# Altium footprint library Q's常用端子.PcbLib: 44 footprints (part 1 of 3)
Each footprint in its own frame and in the unit in brackets; x right, y up, seen from the top. Pads: shape width x height; smd on the part's side, far side on the other; paste and mask are expansions set on the pad; w line width, h text height; cw(c..) or ccw(c..) is an arc to the next point about the centre after c.
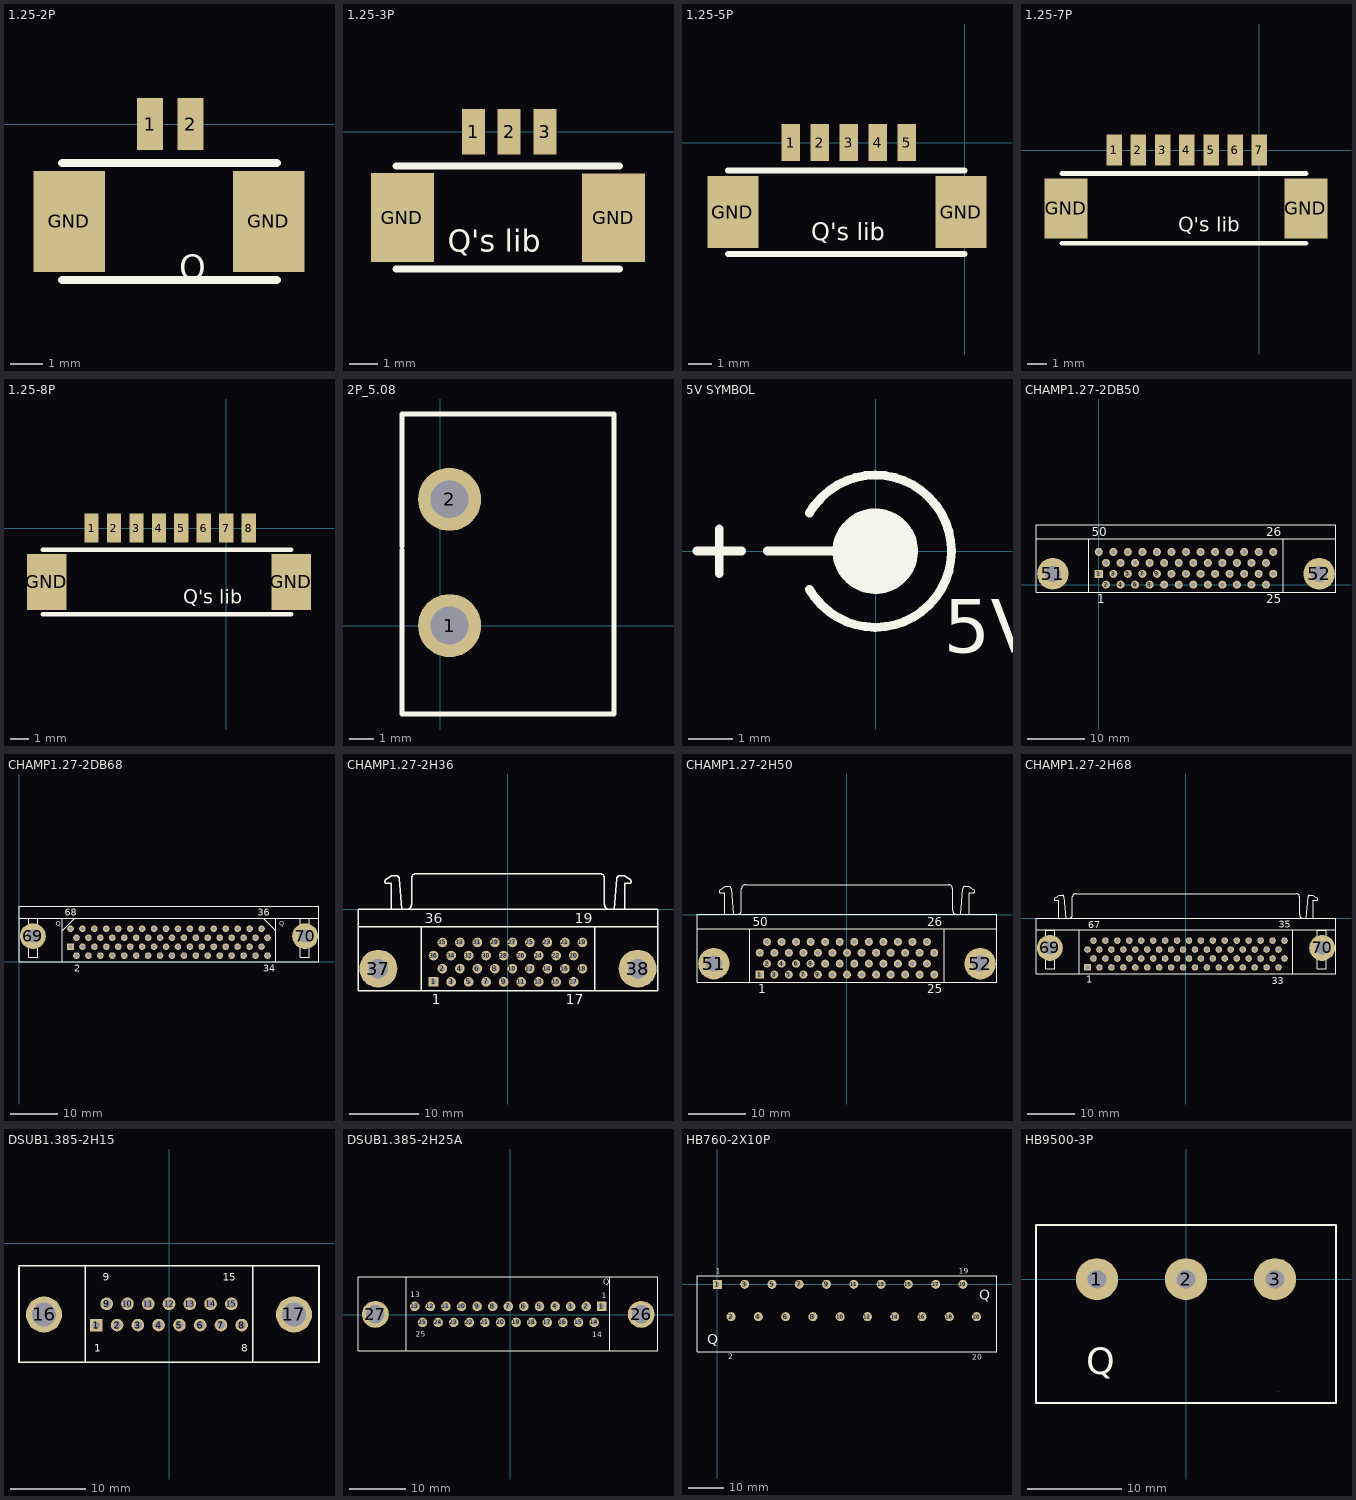
[diagram p0: the footprints below, top view; thin cyan lines are the x and y axes]

## 1.25-2P [mm]
pads (4):
  rect 0.8x1.6 smd: 1(-7.5,0) 2(-6.25,0)
  rect 2.2x3.1 smd: GND(-9.982,-2.997) GND(-3.85,-3)
Top Overlay:
  lines w0.25: -10.2,-4.8 -3.6,-4.8 ; -10.2,-1.2 -3.6,-1.2
  text "Q" at -6.6,-4.8 h0.76

## 1.25-3P [mm]
pads (5):
  rect 0.8x1.6 smd: 1(-7.5,0) 2(-6.25,0) 3(-5,0)
  rect 2.2x3.1 smd: GND(-9.982,-2.997) GND(-2.6,-3)
Top Overlay:
  lines w0.25: -10.2,-4.8 -2.4,-4.8 ; -10.2,-1.2 -2.4,-1.2
  text "Q's lib" at -8.4,-4.2 h0.76

## 1.25-5P [mm]
pads (7):
  rect 0.8x1.6 smd: 1(-7.5,0) 2(-6.25,0) 3(-5,0) 4(-3.75,0) 5(-2.5,0)
  rect 2.2x3.1 smd: GND(-9.982,-2.997) GND(-0.15,-3)
Top Overlay:
  lines w0.25: -10.2,-4.8 0,-4.8 ; -10.2,-1.2 0,-1.2
  text "Q's lib" at -6.6,-4.2 h0.76

## 1.25-7P [mm]
pads (9):
  rect 0.8x1.6 smd: 1(-7.5,0) 2(-6.25,0) 3(-5,0) 4(-3.75,0) 5(-2.5,0) 6(-1.25,0) 7(0,0)
  rect 2.2x3.1 smd: GND(-9.982,-2.997) GND(2.4,-3)
Top Overlay:
  lines w0.25: -10.2,-4.8 2.4,-4.8 ; -10.2,-1.2 2.4,-1.2
  text "Q's lib" at -4.2,-4.2 h0.76

## 1.25-8P [mm]
pads (10):
  rect 0.8x1.6 smd: 1(-7.5,0) 2(-6.25,0) 3(-5,0) 4(-3.75,0) 5(-2.5,0) 6(-1.25,0) 7(0,0) 8(1.25,0)
  rect 2.2x3.1 smd: GND(-9.982,-2.997) GND(3.6,-3)
Top Overlay:
  lines w0.25: -10.2,-4.8 3.6,-4.8 ; -10.2,-1.2 3.6,-1.2
  text "Q's lib" at -2.4,-4.2 h0.76

## 2P_5.08 [mil]
pads (2):
  round 100 hole 60: 1(15,0) 2(15,200)
Top Overlay:
  lines w8: -60,120 -60,-140 275,-140 275,335 135,335 60,335 -60,335 -60,175 ; -60,125 -60,180

## 5V SYMBOL [mil]
Top Overlay:
  circle w39.37: c-0.27,-0.07 r18.03
  lines w7.87: -157.75,-0.07 -118.38,-0.07 ; -138.06,-19.76 -138.06,19.61 ; -95.38,-0.07 -0.27,-0.07 ; -58.52,-33.7 ccw(c-0.27,-0.07) -58.52,33.56
  text "5V DC" at 60,-90 h47.24

## CHAMP1.27-2DB50 [mm] "Connector; 50 Position;直脚; Pitch 1.27 mm"
height 9.6
pads (52):
  rect 1.4x1.4 hole 0.8: 1(0,1.905)
  round 1.4 hole 0.8: 2(1.27,0) 3(2.54,1.905) 4(3.81,0) 5(5.08,1.905) 6(6.35,0) 7(7.62,1.905) 8(8.89,0) 9(10.16,1.905) 10(11.43,0) 11(12.7,1.905) 12(13.97,0) 13(15.24,1.905) 14(16.51,0) 15(17.78,1.905) 16(19.05,0) 17(20.32,1.905) 18(21.59,0) 19(22.86,1.905) 20(24.13,0) 21(25.4,1.905) 22(26.67,0) 23(27.94,1.905) 24(29.21,0) 25(30.48,1.905) 26(30.48,5.715) 27(29.21,3.81) 28(27.94,5.715) 29(26.67,3.81) 30(25.4,5.715) 31(24.13,3.81) 32(22.86,5.715) 33(21.59,3.81) 34(20.32,5.715) 35(19.05,3.81) 36(17.78,5.715) 37(16.51,3.81) 38(15.24,5.715) 39(13.97,3.81) 40(12.7,5.715) 41(11.43,3.81) 42(10.16,5.715) 43(8.89,3.81) 44(7.62,5.715) 45(6.35,3.81) 46(5.08,5.715) 47(3.81,3.81) 48(2.54,5.715) 49(1.27,3.81) 50(0,5.715)
  round 5.5 hole 2.8: 51(-8.01,1.905) 52(38.49,1.905)
Top Overlay:
  lines w0.2: -10.96,8 41.44,8 ; -1.76,-1.3 -1.76,7.92 ; 32.24,-1.3 32.24,8 ; -10.96,-1.3 -10.96,10.5 41.44,10.5 41.44,-1.3 -10.96,-1.3
  text "1" at -0.25,-3.275 h1.5
  text "25" at 29.23,-3.275 h1.5
  text "50" at -1.25,8.475 h1.5
  text "26" at 29.23,8.475 h1.5

## CHAMP1.27-2DB68 [mm] "Connector; 68 Position; ; Pitch 1.27 mm"
height 9.6
pads (70):
  rect 1.4x1.4 hole 0.8: 1(10.96,3.205)
  round 1.4 hole 0.8: 2(12.23,1.3) 3(13.5,3.205) 4(14.77,1.3) 5(16.04,3.205) 6(17.31,1.3) 7(18.58,3.205) 8(19.85,1.3) 9(21.12,3.205) 10(22.39,1.3) 11(23.66,3.205) 12(24.93,1.3) 13(26.2,3.205) 14(27.47,1.3) 15(28.74,3.205) 16(30.01,1.3) 17(31.28,3.205) 18(32.55,1.3) 19(33.82,3.205) 20(35.09,1.3) 21(36.36,3.205) 22(37.63,1.3) 23(38.9,3.205) 24(40.17,1.3) 25(41.44,3.205) 26(42.71,1.3) 27(43.98,3.205) 28(45.25,1.3) 29(46.52,3.205) 30(47.79,1.3) 31(49.06,3.205) 32(50.33,1.3) 33(51.6,3.205) 34(52.87,1.3) 35(52.87,5.11) 36(51.6,7.015) 37(50.33,5.11) 38(49.06,7.015) 39(47.79,5.11) 40(46.52,7.015) 41(45.25,5.11) 42(43.98,7.015) 43(42.71,5.11) 44(41.44,7.015) 45(40.17,5.11) 46(38.9,7.015) 47(37.63,5.11) 48(36.36,7.015) 49(35.09,5.11) 50(33.82,7.015) 51(32.55,5.11) 52(31.28,7.015) 53(30.01,5.11) 54(28.74,7.015) 55(27.47,5.11) 56(26.2,7.015) 57(24.93,5.11) 58(23.66,7.015) 59(22.39,5.11) 60(21.12,7.015) 61(19.85,5.11) 62(18.58,7.015) 63(17.31,5.11) 64(16.04,7.015) 65(14.77,5.11) 66(13.5,7.015) 67(12.23,5.11) 68(10.96,7.015)
  round 5.5 hole 2.8: 69(2.959,5.45) 70(60.88,5.45)
Top Overlay:
  lines w0.2: 0,9.3 63.83,9.3 ; 9.2,0 9.2,9.22 ; 54.63,0 54.63,9.3 ; 0,0 63.83,0 63.83,11.8 0,11.8 0,0
  lines w0.203: 9.309,6.72 11.722,9.133 ; 52.108,9.133 54.521,6.72 ; 2.07,1.005 3.975,1.005 3.975,9.26 2.07,9.26 2.07,1.005 ; 59.855,1.005 59.855,9.26 61.76,9.26 61.76,1.005 59.855,1.005
  text "Q" at 55.41,7.65 h1.02
  text "Q" at 7.785,7.65 h1.02
  text "2" at 11.722,-2.129 h1.5
  text "34" at 51.981,-2.129 h1.5
  text "68" at 9.71,9.775 h1.5
  text "36" at 50.838,9.809 h1.5

## CHAMP1.27-2H36 [mm] "Connector; 36 Position; Right Angle; Pitch 1.27 mm"
height 9.6
pads (38):
  rect 1.4x1.4 hole 0.8: 1(-10.795,-10.5)
  round 1.4 hole 0.8: 2(-9.525,-8.595) 3(-8.255,-10.5) 4(-6.985,-8.595) 5(-5.715,-10.5) 6(-4.445,-8.595) 7(-3.175,-10.5) 8(-1.905,-8.595) 9(-0.635,-10.5) 10(0.635,-8.595) 11(1.905,-10.5) 12(3.175,-8.595) 13(4.445,-10.5) 14(5.715,-8.595) 15(6.985,-10.5) 16(8.255,-8.595) 17(9.525,-10.5) 18(10.795,-8.595) 19(10.795,-4.785) 20(9.525,-6.69) 21(8.255,-4.785) 22(6.985,-6.69) 23(5.715,-4.785) 24(4.445,-6.69) 25(3.175,-4.785) 26(1.905,-6.69) 27(0.635,-4.785) 28(-0.635,-6.69) 29(-1.905,-4.785) 30(-3.175,-6.69) 31(-4.445,-4.785) 32(-5.715,-6.69) 33(-6.985,-4.785) 34(-8.255,-6.69) 35(-9.525,-4.785) 36(-10.795,-6.69)
  round 5.5 hole 2.8: 37(-18.805,-8.595) 38(18.805,-8.595)
Top Overlay:
  lines w0.2: -21.755,-2.5 21.755,-2.5 ; -17.77,4.27 -16.83,4.898 -16.108,4.898 cw(c-16.21,4.5) -15.8,4.5 ; -17.756,4.255 ccw(c-17.53,4.01) -17.78,3.79 -16.9,3.79 -16.9,0 ; -15.8,4.52 -15.43,0 ; -14.69,0.005 ccw(c-14.69,0.7) -13.995,0.7 -13.995,4.5 ; -13.99,4.505 cw(c-13.295,4.505) -13.295,5.2 13.295,5.2 cw(c13.295,4.505) 13.99,4.505 ; -12.555,-11.8 -12.555,-2.58 ; 12.555,-11.8 12.555,-2.5 ; 13.995,4.5 13.995,0.7 ccw(c14.69,0.7) 14.69,0.005 ; 15.43,0 15.8,4.52 ; 15.8,4.5 cw(c16.21,4.5) 16.108,4.898 16.83,4.898 17.77,4.27 ; 16.9,0 16.9,3.79 17.78,3.79 ccw(c17.53,4.01) 17.756,4.255 ; -21.755,-11.8 21.755,-11.8 21.755,0 -21.755,0 -21.755,-11.8
  text "19" at 9.67,-2.025 h1.5
  text "36" at -12.045,-2.025 h1.5
  text "17" at 8.4,-13.775 h1.5
  text "1" at -11.045,-13.775 h1.5

## CHAMP1.27-2H50 [mm] "Connector; 50 Position; Right Angle; Pitch 1.27 mm"
height 9.6
pads (52):
  rect 1.4x1.4 hole 0.8: 1(-15.24,-10.477)
  round 1.4 hole 0.8: 2(-13.97,-8.572) 3(-12.7,-10.477) 4(-11.43,-8.572) 5(-10.16,-10.477) 6(-8.89,-8.572) 7(-7.62,-10.477) 8(-6.35,-8.572) 9(-5.08,-10.477) 10(-3.81,-8.572) 11(-2.54,-10.477) 12(-1.27,-8.572) 13(0,-10.477) 14(1.27,-8.572) 15(2.54,-10.477) 16(3.81,-8.572) 17(5.08,-10.477) 18(6.35,-8.572) 19(7.62,-10.477) 20(8.89,-8.572) 21(10.16,-10.477) 22(11.43,-8.572) 23(12.7,-10.477) 24(13.97,-8.572) 25(15.24,-10.477) 26(15.24,-6.667) 27(13.97,-4.763) 28(12.7,-6.667) 29(11.43,-4.763) 30(10.16,-6.667) 31(8.89,-4.763) 32(7.62,-6.667) 33(6.35,-4.763) 34(5.08,-6.667) 35(3.81,-4.763) 36(2.54,-6.667) 37(1.27,-4.763) 38(0,-6.667) 39(-1.27,-4.763) 40(-2.54,-6.667) 41(-3.81,-4.763) 42(-5.08,-6.667) 43(-6.35,-4.763) 44(-7.62,-6.667) 45(-8.89,-4.763) 46(-10.16,-6.667) 47(-11.43,-4.763) 48(-12.7,-6.667) 49(-13.97,-4.763) 50(-15.24,-6.667)
  round 5.5 hole 2.8: 51(-23.25,-8.572) 52(23.25,-8.572)
Top Overlay:
  lines w0.2: -26.2,-2.478 26.2,-2.478 ; -22.215,4.292 -21.275,4.92 -20.553,4.92 cw(c-20.655,4.523) -20.245,4.523 ; -22.201,4.277 ccw(c-21.975,4.032) -22.225,3.812 -21.345,3.813 -21.345,0.022 ; -20.245,4.543 -19.875,0.022 ; -19.135,0.028 ccw(c-19.135,0.723) -18.44,0.723 -18.44,4.523 ; -18.435,4.527 cw(c-17.74,4.527) -17.74,5.222 17.74,5.222 cw(c17.74,4.527) 18.435,4.527 ; -17,-11.777 -17,-2.558 ; 17,-11.777 17,-2.478 ; 18.44,4.523 18.44,0.723 ccw(c19.135,0.723) 19.135,0.028 ; 19.875,0.022 20.245,4.543 ; 20.245,4.523 cw(c20.655,4.523) 20.553,4.92 21.275,4.92 22.215,4.292 ; 21.345,0.022 21.345,3.812 22.225,3.813 ccw(c21.975,4.032) 22.201,4.277 ; -26.2,-11.777 26.2,-11.777 26.2,0.022 -26.2,0.022 -26.2,-11.777
  text "26" at 13.99,-2.003 h1.5
  text "50" at -16.49,-2.003 h1.5
  text "25" at 13.99,-13.752 h1.5
  text "1" at -15.49,-13.752 h1.5

## CHAMP1.27-2H68 [mm] "Connector; 68 Position; Right Angle; Pitch 1.27 mm"
height 9.6
pads (70):
  rect 1.4x1.4 hole 0.8: 1(-20.955,-10.5)
  round 1.4 hole 0.8: 2(-19.685,-8.595) 3(-18.415,-10.5) 4(-17.145,-8.595) 5(-15.875,-10.5) 6(-14.605,-8.595) 7(-13.335,-10.5) 8(-12.065,-8.595) 9(-10.795,-10.5) 10(-9.525,-8.595) 11(-8.255,-10.5) 12(-6.985,-8.595) 13(-5.715,-10.5) 14(-4.445,-8.595) 15(-3.175,-10.5) 16(-1.905,-8.595) 17(-0.635,-10.5) 18(0.635,-8.595) 19(1.905,-10.5) 20(3.175,-8.595) 21(4.445,-10.5) 22(5.715,-8.595) 23(6.985,-10.5) 24(8.255,-8.595) 25(9.525,-10.5) 26(10.795,-8.595) 27(12.065,-10.5) 28(13.335,-8.595) 29(14.605,-10.5) 30(15.875,-8.595) 31(17.145,-10.5) 32(18.415,-8.595) 33(19.685,-10.5) 34(20.955,-8.595) 35(20.955,-4.785) 36(19.685,-6.69) 37(18.415,-4.785) 38(17.145,-6.69) 39(15.875,-4.785) 40(14.605,-6.69) 41(13.335,-4.785) 42(12.065,-6.69) 43(10.795,-4.785) 44(9.525,-6.69) 45(8.255,-4.785) 46(6.985,-6.69) 47(5.715,-4.785) 48(4.445,-6.69) 49(3.175,-4.785) 50(1.905,-6.69) 51(0.635,-4.785) 52(-0.635,-6.69) 53(-1.905,-4.785) 54(-3.175,-6.69) 55(-4.445,-4.785) 56(-5.715,-6.69) 57(-6.985,-4.785) 58(-8.255,-6.69) 59(-9.525,-4.785) 60(-10.795,-6.69) 61(-12.065,-4.785) 62(-13.335,-6.69) 63(-14.605,-4.785) 64(-15.875,-6.69) 65(-17.145,-4.785) 66(-18.415,-6.69) 67(-19.685,-4.785) 68(-20.955,-6.69)
  round 5.5 hole 2.8: 69(-28.956,-6.35) 70(28.965,-6.35)
Top Overlay:
  lines w0.2: -31.915,-2.5 31.915,-2.5 ; -27.93,4.27 -26.99,4.898 -26.268,4.898 cw(c-26.37,4.5) -25.96,4.5 ; -27.916,4.255 ccw(c-27.69,4.01) -27.94,3.79 -27.06,3.79 -27.06,0 ; -25.96,4.52 -25.59,0 ; -24.85,0.005 ccw(c-24.85,0.7) -24.155,0.7 -24.155,4.5 ; -24.15,4.505 cw(c-23.455,4.505) -23.455,5.2 23.455,5.2 cw(c23.455,4.505) 24.15,4.505 ; -22.715,-11.8 -22.715,-2.58 ; 22.715,-11.8 22.715,-2.5 ; 24.155,4.5 24.155,0.7 ccw(c24.85,0.7) 24.85,0.005 ; 25.59,0 25.96,4.52 ; 25.96,4.5 cw(c26.37,4.5) 26.268,4.898 26.99,4.898 27.93,4.27 ; 27.06,0 27.06,3.79 27.94,3.79 ccw(c27.69,4.01) 27.916,4.255 ; -31.915,-11.8 -31.915,0 31.915,0 31.915,-11.8 -31.915,-11.8
  lines w0.203: -29.845,-10.795 -29.845,-2.54 -27.94,-2.54 -27.94,-10.795 -29.845,-10.795 ; 27.94,-10.795 29.845,-10.795 29.845,-2.54 27.94,-2.54 27.94,-10.795
  text "35" at 19.705,-2.025 h1.5
  text "67" at -20.828,-2.159 h1.5
  text "33" at 18.288,-14.097 h1.5
  text "1" at -21.205,-13.775 h1.5

## DSUB1.385-2H15 [mm] "Connector; D Subminiature; 15 Position; Right Angle; Pitch 1.385 mm"
height 12.75
pads (17):
  rect 1.69x1.69 hole 1: 1(-9.695,-10.92)
  round 1.69 hole 1.09: 2(-6.925,-10.92) 3(-4.155,-10.92) 4(-1.385,-10.92) 5(1.385,-10.92) 6(4.155,-10.92) 7(6.925,-10.92) 8(9.695,-10.92) 9(-8.31,-8.08) 10(-5.54,-8.08) 11(-2.77,-8.08) 12(0,-8.08) 13(2.77,-8.08) 14(5.54,-8.08) 15(8.31,-8.08)
  round 4.8 hole 3.18: 16(-16.66,-9.5) 17(16.66,-9.5)
Top Overlay:
  lines w0.203: -20,-3.175 -20,-15.875 20,-15.875 20,-3.048 ; -20,-3 20,-3 ; -11.14,-15.875 -11.14,-3 ; 11.14,-15.875 11.14,-3
  text "1" at -9.945,-14.475 h1
  text "8" at 9.652,-14.475 h1
  text "15" at 7.185,-4.975 h1
  text "9" at -8.81,-4.975 h1

## DSUB1.385-2H25A [mm] "Connector; D Subminiature; 25 Position; Right Angle; Pitch 1.385 mm"
height 12.93
pads (27):
  rect 1.69x1.69 hole 1: 1(16.261,1.497)
  round 1.69 hole 1: 2(13.5,1.497) 3(10.739,1.497) 4(7.978,1.497) 5(5.217,1.497) 6(2.456,1.497) 7(-0.305,1.497) 8(-3.066,1.497) 9(-5.827,1.497) 10(-8.588,1.497) 11(-11.349,1.497) 12(-14.11,1.497) 13(-16.871,1.497) 14(14.881,-1.343) 15(12.12,-1.343) 16(9.359,-1.343) 17(6.598,-1.343) 18(3.837,-1.343) 19(1.076,-1.343) 20(-1.685,-1.343) 21(-4.446,-1.343) 22(-7.207,-1.343) 23(-9.968,-1.343) 24(-12.729,-1.343) 25(-15.49,-1.343)
  round 4.76 hole 3.26: 26(23.221,0.077) 27(-23.831,0.077)
Top Overlay:
  lines w0.203: -18.359,-6.423 -18.359,6.706 ; 17.641,-6.423 17.641,6.706 ; -26.909,-6.375 26.191,-6.375 26.191,6.706 -26.909,6.706 -26.909,-6.375
  text "1" at 16.205,2.946 h1
  text "13" at -17.628,3.15 h1
  text "14" at 14.554,-4.013 h1
  text "25" at -16.688,-3.912 h1
  text "Q" at 16.485,5.283 h1.02

## HB760-2X10P [mm]
pads (20):
  rect 2.524x2.524 hole 1.2: 1(0,0)
  round 2.524 hole 1.2: 2(3.81,-9.049) 3(7.62,0) 4(11.43,-9.049) 5(15.24,0) 6(19.05,-9.049) 7(22.86,0) 8(26.67,-9.049) 9(30.48,0) 10(34.29,-9.049) 11(38.1,0) 12(41.91,-9.049) 13(45.72,0) 14(49.53,-9.049) 15(53.34,0) 16(57.15,-9.049) 17(60.96,0) 18(64.77,-9.049) 19(68.58,0) 20(72.39,-9.049)
Top Overlay:
  lines w0.203: -5.715,-18.923 78.105,-18.923 78.105,2.413 -5.715,2.413 -5.715,-18.923
  text "Q" at -2.87,-16.764 h2.82
  text "Q" at 73.152,-4.267 h2.82
  text "1" at -0.457,2.896 h1.52
  text "19" at 67.412,2.896 h1.52
  text "2" at 3.048,-20.93 h1.52
  text "20" at 71.247,-21.031 h1.52
3D body: height 13.54, standoff 0, extent 72.821,-4.598 75.261,-1.219
3D body: height 7, standoff 0, extent 70.306,-15.144 74.114,-11.335
3D body: height 10, standoff 0, extent 70.778,-14.671 73.642,-11.808
3D body: height 11.5, standoff 0, extent 67.893,-18.542 68.907,-8.382
3D body: height 7, standoff 0, extent 62.706,-15.144 66.514,-11.335
3D body: height 10, standoff 0, extent 63.178,-14.671 66.042,-11.808
3D body: height 11.5, standoff 0, extent 60.293,-18.542 61.307,-8.382
3D body: height 7, standoff 0, extent 55.106,-15.144 58.914,-11.335
3D body: height 10, standoff 0, extent 55.578,-14.671 58.442,-11.808
3D body: height 11.5, standoff 0, extent 52.693,-18.542 53.707,-8.382
3D body: height 7, standoff 0, extent 47.506,-15.144 51.314,-11.335
3D body: height 10, standoff 0, extent 47.978,-14.671 50.842,-11.808
3D body: height 11.5, standoff 0, extent 45.093,-18.542 46.107,-8.382
3D body: height 7, standoff 0, extent 39.906,-15.144 43.714,-11.335
3D body: height 10, standoff 0, extent 40.378,-14.671 43.242,-11.808
3D body: height 11.5, standoff 0, extent 37.493,-18.542 38.507,-8.382
3D body: height 7, standoff 0, extent 32.306,-15.144 36.114,-11.335
3D body: height 10, standoff 0, extent 32.778,-14.671 35.642,-11.808
3D body: height 11.5, standoff 0, extent 29.893,-18.542 30.907,-8.382
3D body: height 7, standoff 0, extent 24.706,-15.144 28.514,-11.335
3D body: height 10, standoff 0, extent 25.178,-14.671 28.042,-11.808
3D body: height 11.5, standoff 0, extent 22.293,-18.542 23.307,-8.382
3D body: height 7, standoff 0, extent 17.106,-15.144 20.914,-11.335
3D body: height 10, standoff 0, extent 17.578,-14.671 20.442,-11.808
3D body: height 11.5, standoff 0, extent 14.693,-18.542 15.707,-8.382
3D body: height 7, standoff 0, extent 9.506,-15.144 13.314,-11.335
3D body: height 10, standoff 0, extent 9.978,-14.671 12.842,-11.808
3D body: height 11.5, standoff 0, extent 7.093,-18.542 8.107,-8.382
3D body: height 7, standoff 0, extent 1.906,-15.144 5.714,-11.335
3D body: height 10, standoff 0, extent 2.378,-14.671 5.242,-11.808
3D body: height 11.5, standoff 0, extent -0.507,-18.542 0.507,-8.382
3D body: height 20.5, standoff 0, extent 71.683,-8.382 72.697,1.905
3D body: height 20.5, standoff 0, extent 64.083,-8.382 65.097,1.905
3D body: height 18, standoff 0, extent 66.968,-4.607 69.832,-1.743
3D body: height 15, standoff 0, extent 66.496,-5.079 70.304,-1.271
3D body: height 20.5, standoff 0, extent 56.483,-8.382 57.497,1.905
3D body: height 18, standoff 0, extent 59.368,-4.607 62.232,-1.743
3D body: height 15, standoff 0, extent 58.896,-5.079 62.704,-1.271
3D body: height 20.5, standoff 0, extent 48.883,-8.382 49.897,1.905
3D body: height 18, standoff 0, extent 51.768,-4.607 54.632,-1.743
3D body: height 15, standoff 0, extent 51.296,-5.079 55.104,-1.271
3D body: height 20.5, standoff 0, extent 41.283,-8.382 42.297,1.905
3D body: height 18, standoff 0, extent 44.168,-4.607 47.032,-1.743
3D body: height 15, standoff 0, extent 43.696,-5.079 47.504,-1.271
3D body: height 20.5, standoff 0, extent 33.683,-8.382 34.697,1.905
3D body: height 18, standoff 0, extent 36.568,-4.607 39.432,-1.743
3D body: height 15, standoff 0, extent 36.096,-5.079 39.904,-1.271
3D body: height 20.5, standoff 0, extent 26.083,-8.382 27.097,1.905
3D body: height 18, standoff 0, extent 28.968,-4.607 31.832,-1.743
3D body: height 15, standoff 0, extent 28.496,-5.079 32.304,-1.271
3D body: height 20.5, standoff 0, extent 18.483,-8.382 19.497,1.905
3D body: height 18, standoff 0, extent 21.368,-4.607 24.232,-1.743
3D body: height 15, standoff 0, extent 20.896,-5.079 24.704,-1.271
3D body: height 20.5, standoff 0, extent 10.883,-8.382 11.897,1.905
3D body: height 18, standoff 0, extent 13.768,-4.607 16.632,-1.743
3D body: height 15, standoff 0, extent 13.296,-5.079 17.104,-1.271
3D body: height 20.5, standoff 0, extent 3.283,-8.382 4.297,1.905
3D body: height 18, standoff 0, extent 6.168,-4.607 9.032,-1.743
3D body: height 15, standoff 0, extent 5.696,-5.079 9.504,-1.271
3D body: height 18, standoff 0, extent -1.432,-4.607 1.432,-1.743
3D body: height 15, standoff 0, extent -1.904,-5.079 1.904,-1.271
3D body: height 23, standoff 0, extent -5.537,-18.669 77.902,2.337
3D body: height 13, standoff 0, extent -3.327,-8.636 75.438,0.254
3D body: height 5.5, standoff 0, extent -3.302,-18.669 75.413,-8.382
3D body: height 6, standoff 0, extent -3.176,-17.044 -0.736,-13.665

## HB9500-3P [mm]
pads (3):
  round 4.5 hole 2: 1(-9.5,0) 2(0,0) 3(9.5,0)
Top Overlay:
  lines w0.001: 9.83,-11.989 9.855,-12.014
  lines w0.203: -16.002,-13.208 -16.002,5.791 16,5.791 16,-13.208 -16.002,-13.208
  text "Q" at -10.668,-10.16 h2.82
3D body: height 13.5, standoff 0, extent 3.971,-13.208 5.588,3.557
3D body: height 13.5, standoff 0, extent -5.554,-13.208 -3.937,3.557
3D body: height 23, standoff 0, extent -15.875,-13.207 15.875,5.715
3D body: height 7, standoff 0, extent -13.716,-13.207 13.843,3.556
3D body: height 10, standoff 0, extent -12.7,-5.587 -6.35,1.523
3D body: height 10, standoff 0, extent -3.2,-5.587 3.15,1.523
3D body: height 12.5, standoff 0, extent -2.769,-4.776 2.719,0.712
3D body: height 10, standoff 0, extent 6.3,-5.587 12.65,1.523
3D body: height 12.5, standoff 0, extent 6.731,-4.776 12.219,0.712
3D body: height 12.5, standoff 0, extent -12.269,-4.776 -6.781,0.712
3D body: height 6, standoff 0, extent -10.973,-10.44 -8.534,-7.061